# EAGLE library part ESP-32S (library ESP-32S_NODEMCU)
ESP-32S NODEMCU V1.1
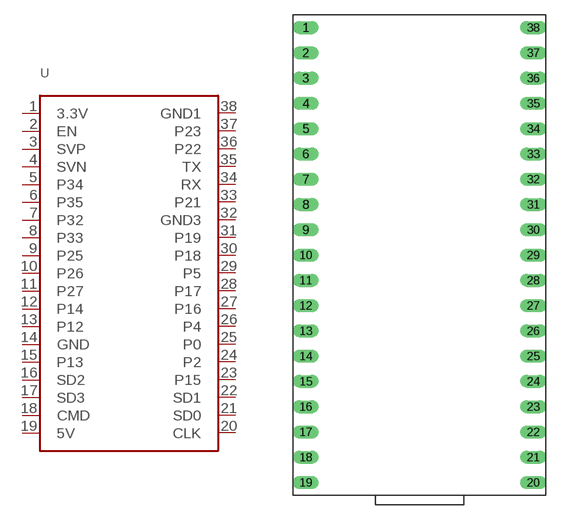
[diagram p0: symbol with the pads of BOARD; footprint BOARD]

Designator prefix -

## ESP-32S (MAKER: DarioBocc)  [BOARD]
1  3.3V
2  EN
3  SVP
4  SVN
5  P34
6  P35
7  P32
8  P33
9  P25
10  P26
11  P27
12  P14
13  P12
14  GND
15  P13
16  SD2
17  SD3
18  CMD
19  5V
20  CLK
21  SD0
22  SD1
23  P15
24  P2
25  P0
26  P4
27  P16
28  P17
29  P5
30  P18
31  P19
32  GND3
33  P21
34  RX
35  TX
36  P22
37  P23
38  GND1

## Footprint BOARD (pad centres in mm)
drill 0.8 long: 1 -11.43,22.86; 2 -11.43,20.32; 3 -11.43,17.78; 4 -11.43,15.24; 5 -11.43,12.7; 6 -11.43,10.16; 7 -11.43,7.62; 8 -11.43,5.08; 9 -11.43,2.54; 10 -11.43,0; 11 -11.43,-2.54; 12 -11.43,-5.08; 13 -11.43,-7.62; 14 -11.43,-10.16; 15 -11.43,-12.7; 16 -11.43,-15.24; 17 -11.43,-17.78; 18 -11.43,-20.32; 19 -11.43,-22.86; 20 11.43,-22.86; 21 11.43,-20.32; 22 11.43,-17.78; 23 11.43,-15.24; 24 11.43,-12.7; 25 11.43,-10.16; 26 11.43,-7.62; 27 11.43,-5.08; 28 11.43,-2.54; 29 11.43,0; 30 11.43,2.54; 31 11.43,5.08; 32 11.43,7.62; 33 11.43,10.16; 34 11.43,12.7; 35 11.43,15.24; 36 11.43,17.78; 37 11.43,20.32; 38 11.43,22.86